# Altium footprint library SOIC127P600X175-8N.PcbLib: 1 footprints
Each footprint in its own frame and in the unit in brackets; x right, y up, seen from the top. Pads: shape width x height; smd on the part's side, far side on the other; paste and mask are expansions set on the pad; w line width, h text height; cw(c..) or ccw(c..) is an arc to the next point about the centre after c.
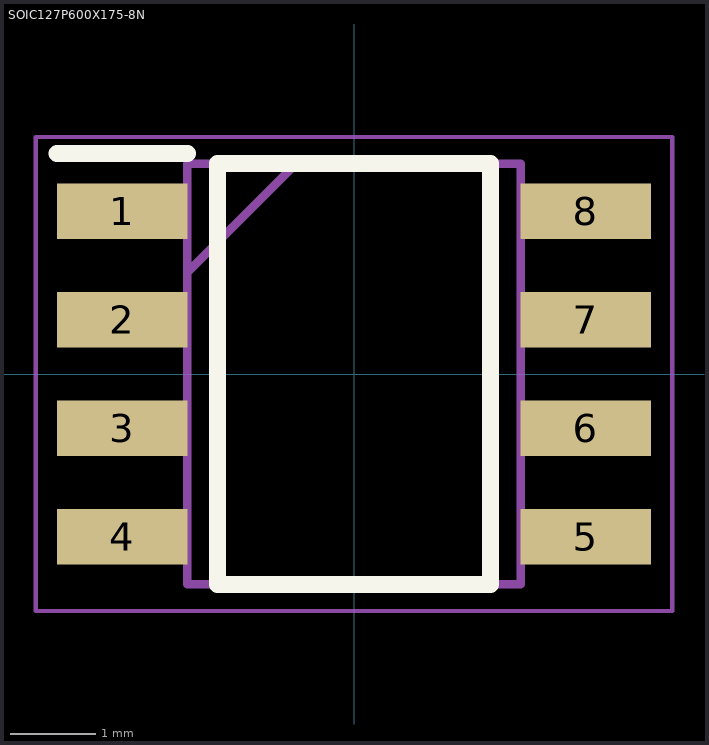
[diagram p0: the footprint, top view; thin cyan lines are the x and y axes]

## SOIC127P600X175-8N [mm]
pads (8):
  rect 1.525x0.65 smd: 1(-2.712,1.905) 2(-2.712,0.635) 3(-2.712,-0.635) 4(-2.712,-1.905) 5(2.712,-1.905) 6(2.712,-0.635) 7(2.712,0.635) 8(2.712,1.905)
Top Overlay:
  lines w0.2: -3.475,2.58 -1.95,2.58 ; -1.6,-2.462 1.6,-2.462 1.6,2.462 -1.6,2.462 -1.6,-2.462
Mechanical 15:
  lines w0.1: -1.95,1.192 -0.68,2.462 ; -1.95,-2.462 1.95,-2.462 1.95,2.462 -1.95,2.462 -1.95,-2.462
Mechanical 20:
  lines w0.05: -3.725,-2.775 3.725,-2.775 3.725,2.775 -3.725,2.775 -3.725,-2.775